# Altium footprint library Diodes.PcbLib: 21 footprints (part 1 of 2)
Each footprint in its own frame and in the unit in brackets; x right, y up, seen from the top. Pads: shape width x height; smd on the part's side, far side on the other; paste and mask are expansions set on the pad; w line width, h text height; cw(c..) or ccw(c..) is an arc to the next point about the centre after c.
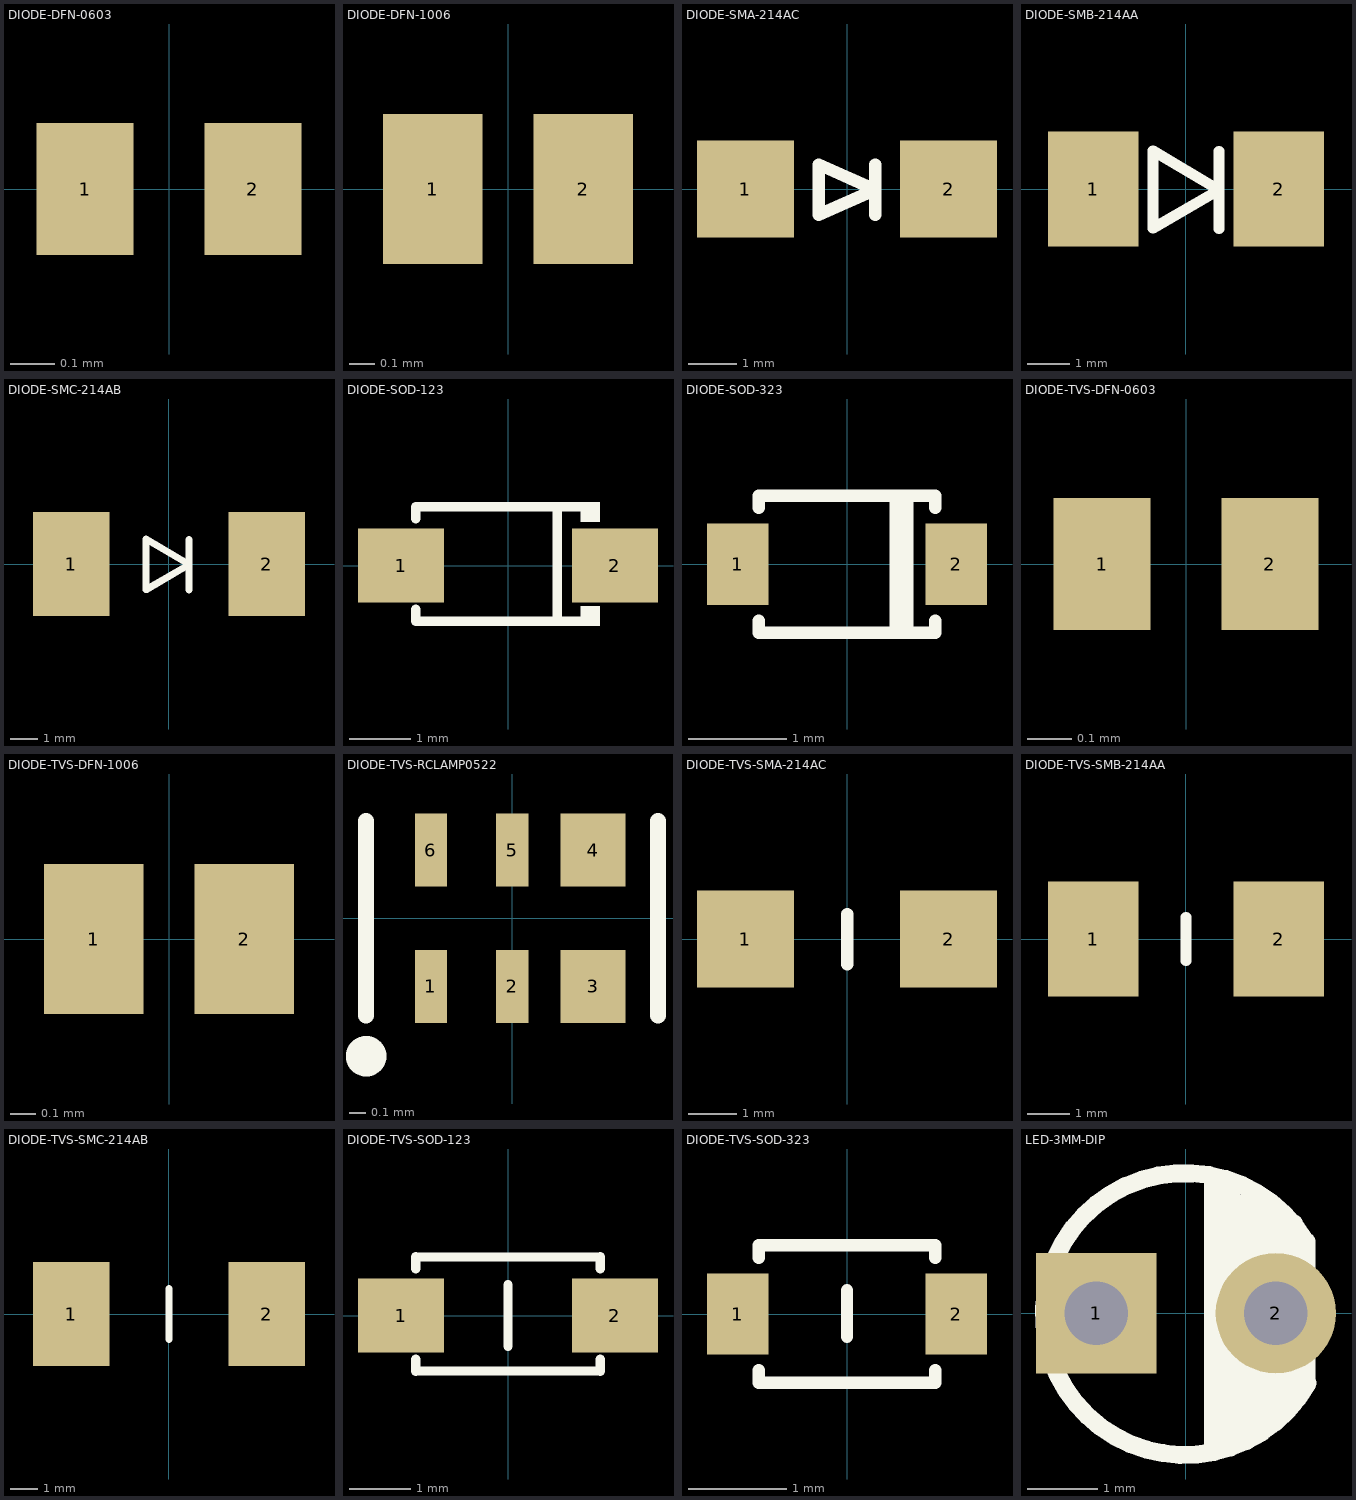
[diagram p0: the footprints below, top view; thin cyan lines are the x and y axes]

## DIODE-DFN-0603 [mm]
pads (2):
  rect 0.22x0.3 smd mask+0.01: 1(-0.19,0) 2(0.19,0)
3D body "DFN0603.STEP": height 0.27, standoff 0, extent -0.31,-0.16 0.31,0.16

## DIODE-DFN-1006 [mm]
pads (2):
  rect 0.4x0.6 smd paste-100 mask+0.04: 1(-0.301,0) 2(0.301,0)
3D body "SOD.STEP": height 0.51, standoff -0.01, extent -0.5,-0.3 0.5,0.3

## DIODE-SMA-214AC [mm]
height 15.49
pads (2):
  rect 2x2 smd: 1(-2.1,0) 2(2.1,0)
Top Overlay:
  lines w0.254: 0.584,-0.533 0.584,0.508 ; -0.586,-0.533 -0.586,0.508 0.584,-0.013 -0.586,-0.533
3D body "User Library-DO-214AC SMA.step": height 2.4, standoff 0, extent -2.6,-1.3 2.6,1.3

## DIODE-SMB-214AA [mm]
height 1.45
pads (2):
  rect 2.159x2.743 smd: 1(-2.21,0) 2(2.21,0)
Top Overlay:
  lines w0.254: 0.787,-0.953 0.787,0.902 ; 0.787,-0.546 0.787,0.495 ; -0.787,-0.94 -0.787,0.914 0.787,-0.025 -0.787,-0.94
3D body "User Library-DO-214AA(SMB).step": height 2.65, standoff 0, extent -2.794,-1.975 2.794,1.975

## DIODE-SMC-214AB [mil]
height 57.09
pads (2):
  rect 110x150 smd: 1(-140.49,0) 2(140.49,0)
Top Overlay:
  lines w10: 29,-37.5 29,35.5 ; 29,-21.5 29,19.5 ; -33,-37 -33,36 29,-1 -33,-37
3D body "User Library-DO-214AB SMC.step": height 92.62, standoff 1.97, extent -156.5,-116.14 156.5,116.14

## DIODE-SOD-123 [mm]
pads (2):
  rect 1.4x1.2 smd: 1(-1.735,0) 2(1.735,0)
Top Overlay:
  region: 1.181,-0.976 1.181,-0.656 1.486,-0.656 1.486,-0.976
  region: 1.181,1.028 1.181,0.708 1.486,0.708 1.486,1.028
  lines w0.152: -1.495,-0.707 -1.495,-0.9 1.257,-0.9 ; -1.495,0.759 -1.495,0.952 1.257,0.952 ; 0.798,-0.85 0.798,0.902
3D body "SOD-123F.step": height 1.02, standoff 0, extent -1.83,-0.904 1.97,0.896

## DIODE-SOD-323 [mm]
height 1.15
pads (2):
  rect 0.63x0.83 smd: 1(-1.115,0) 2(1.115,0)
Top Overlay:
  rectangle: 0.433,-0.693 0.68,0.707
  lines w0.127: -0.9,-0.575 -0.9,-0.7 0.9,-0.7 0.9,-0.575 ; -0.9,0.575 -0.9,0.7 0.9,0.7 0.9,0.575
3D body "User Library-SOD323.step": height 1.1, standoff 0, extent -1.35,-0.625 1.35,0.625

## DIODE-TVS-DFN-0603 [mm]
pads (2):
  rect 0.22x0.3 smd mask+0.01: 1(-0.19,0) 2(0.19,0)
3D body "DFN0603.STEP": height 0.27, standoff 0, extent -0.31,-0.16 0.31,0.16

## DIODE-TVS-DFN-1006 [mm]
pads (2):
  rect 0.4x0.6 smd paste-100 mask+0.04: 1(-0.301,0) 2(0.301,0)
3D body "SOD.STEP": height 0.51, standoff -0.01, extent -0.5,-0.3 0.5,0.3

## DIODE-TVS-RCLAMP0522 [mm]
pads (6):
  rect 0.2x0.45 smd paste+0 mask+0.05: 1(-0.5,-0.42) 2(0,-0.42) 5(0,0.42) 6(-0.5,0.42)
  rect 0.4x0.45 smd paste+0 mask+0.05: 3(0.5,-0.42) 4(0.5,0.42)
Top Overlay:
  circle w0.15: c-0.9,-0.85 r0.05
  lines w0.1: -0.9,-0.6 -0.9,0.6 ; 0.9,-0.6 0.9,0.6
3D body "DFN1610.STEP": height 0.58, standoff 0, extent -0.8,-0.501 0.8,0.501

## DIODE-TVS-SMA-214AC [mm]
height 15.49
pads (2):
  rect 2x2 smd: 1(-2.1,0) 2(2.1,0)
Top Overlay:
  lines w0.254: 0.004,-0.523 0.004,0.518
3D body "User Library-DO-214AC SMA.step": height 2.4, standoff 0, extent -2.6,-1.3 2.6,1.3

## DIODE-TVS-SMB-214AA [mm]
height 1.45
pads (2):
  rect 2.159x2.743 smd: 1(-2.21,0) 2(2.21,0)
Top Overlay:
  lines w0.254: 0,-0.52 0,0.521
3D body "User Library-DO-214AA(SMB).step": height 2.65, standoff 0, extent -2.794,-1.975 2.794,1.975

## DIODE-TVS-SMC-214AB [mil]
height 57.09
pads (2):
  rect 110x150 smd: 1(-140.49,0) 2(140.49,0)
Top Overlay:
  lines w10: 0,-36.5 0,36.5
3D body "User Library-DO-214AB SMC.step": height 92.62, standoff 1.97, extent -156.5,-116.14 156.5,116.14

## DIODE-TVS-SOD-123 [mm]
pads (2):
  rect 1.4x1.2 smd: 1(-1.735,0) 2(1.735,0)
Top Overlay:
  lines w0.152: -1.495,-0.707 -1.495,-0.9 1.495,-0.9 1.495,-0.707 ; -1.495,0.759 -1.495,0.952 1.495,0.952 1.495,0.759 ; 0,-0.5 0,0.5
3D body "SOD-123F.step": height 1.02, standoff 0, extent -1.83,-0.904 1.97,0.896

## DIODE-TVS-SOD-323 [mm]
height 1.15
pads (2):
  rect 0.63x0.83 smd: 1(-1.115,0) 2(1.115,0)
Top Overlay:
  lines w0.127: -0.9,-0.575 -0.9,-0.7 0.9,-0.7 0.9,-0.575 ; -0.9,0.575 -0.9,0.7 0.9,0.7 0.9,0.575 ; 0,-0.23 0,0.24
3D body "User Library-SOD323.step": height 1.1, standoff 0, extent -1.35,-0.625 1.35,0.625

## LED-3MM-DIP [mm] "DIP LED"
height 6.35
pads (2):
  rect 1.7x1.7 hole 0.9: 1(-1.27,0)
  round 1.7 hole 0.9: 2(1.27,0)
Top Overlay:
  lines w0.254: 0.381,-1.905 0.381,1.905 ; 0.635,-1.778 0.635,1.778 ; 1.016,-1.651 1.016,1.524 ; 1.524,1.27 1.524,-1.27 1.27,-1.524 1.27,1.397 1.143,1.524 1.016,1.524 ; 1.685,1.025 ccw(c-0.016,-0.012) 1.72,-0.987 ; 1.702,-0.965 1.702,1.016 ; 0.889,1.651 0.889,-1.778 0.889,1.651 ; 0.889,1.651 1.016,1.524
3D body "LED 3mm-玻璃罩.STEP": height 5.55, standoff 0.05, extent -1.95,-1.947 1.638,1.947
3D body "LED 3mm-R.STEP": height 3.01, standoff -3.45, extent -1.623,-0.838 1.618,0.838